# Altium footprint library Package_CSP.PcbLib: 178 footprints (part 1 of 12)
Each footprint in its own frame and in the unit in brackets; x right, y up, seen from the top. Pads: shape width x height; smd on the part's side, far side on the other; paste and mask are expansions set on the pad; w line width, h text height; cw(c..) or ccw(c..) is an arc to the next point about the centre after c.
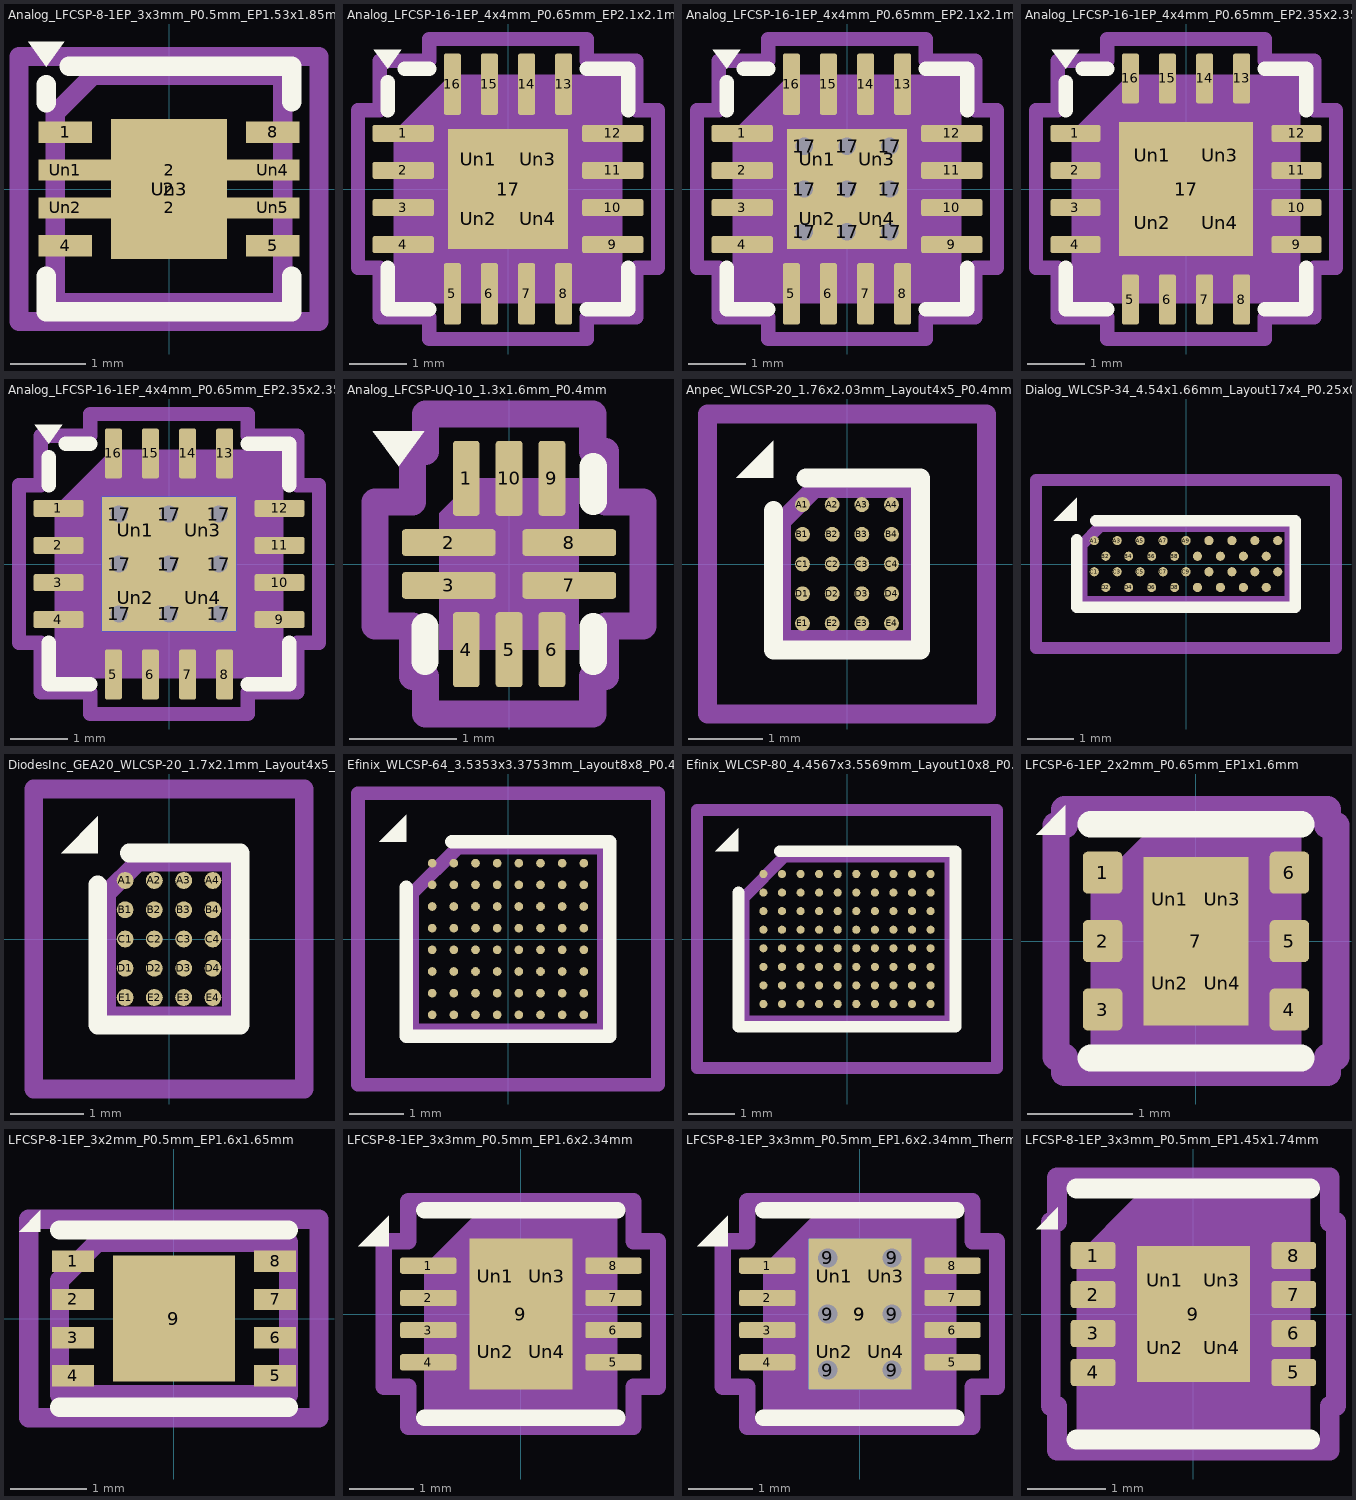
[diagram p0: the footprints below, top view; thin cyan lines are the x and y axes]

## Analog_LFCSP-8-1EP_3x3mm_P0.5mm_EP1.53x1.85mm [mm]
pads (12):
  rect 0.71x0.28 smd: 1(-1.37,0.75) 4(-1.37,-0.75) 5(1.37,-0.75) 8(1.37,0.75)
  rect 3.45x0.28 smd: 2(0,-0.25) 2(0,0.25)
  rect 1.53x1.85 smd: 2(0,0)
  rect 0.71x0.28 on Top Solder: Un1(-1.37,0.25) Un2(-1.37,-0.25) Un4(1.37,0.25) Un5(1.37,-0.25)
  rect 1.2x1.55 on Top Paste: Un3(0,0)
F.SilkS:
  region: -1.62,1.615 -1.86,1.945 -1.38,1.945
  lines w0.254: -1.62,-1.15 -1.62,-1.62 1.62,-1.62 1.62,-1.15 ; -1.62,1.14 -1.62,1.375 ; -1.32,1.62 1.62,1.62 1.62,1.15
Top Component Center:
  lines w0.127: -0.127,0 0.127,0 ; 0,-0.127 0,0.127
Top Assembly:
  lines w0.254: -1.5,-1.5 -1.5,1 -1,1.5 1.5,1.5 1.5,-1.5 -1.5,-1.5
  text "'.Designator'" at -2.878,-0.633 h0.7
Top Courtyard:
  lines w0.254: -1.98,-1.75 -1.98,1.75 1.98,1.75 1.98,-1.75 -1.98,-1.75
Top Designator:
  text ".Designator" at -7.768,-0.474 h1.52

## Analog_LFCSP-16-1EP_4x4mm_P0.65mm_EP2.1x2.1mm [mm]
pads (21):
  rrect25% 1.075x0.3 smd: 1(-1.837,0.975) 2(-1.837,0.325) 3(-1.837,-0.325) 4(-1.837,-0.975) 9(1.837,-0.975) 10(1.837,-0.325) 11(1.837,0.325) 12(1.837,0.975)
  rrect25% 0.3x1.075 smd: 5(-0.975,-1.837) 6(-0.325,-1.837) 7(0.325,-1.837) 8(0.975,-1.837) 13(0.975,1.837) 14(0.325,1.837) 15(-0.325,1.837) 16(-0.975,1.837)
  rect 2.1x2.1 smd: 17(0,0)
  rrect25% 0.85x0.85 on Top Paste: Un1(-0.525,0.525) Un2(-0.525,-0.525) Un3(0.525,0.525) Un4(0.525,-0.525)
F.SilkS:
  region: -2.11,2.11 -2.35,2.44 -1.87,2.44
  lines w0.254: -2.11,-1.385 -2.11,-2.11 -1.385,-2.11 ; -2.11,1.385 -2.11,1.87 ; -1.81,2.11 -1.385,2.11 ; 1.385,-2.11 2.11,-2.11 2.11,-1.385 ; 1.385,2.11 2.11,2.11 2.11,1.385
Top Assembly:
  region: 2,-2 -2,-2 -2,1 -1,2 2,2
  text "'.Designator'" at -4.047,-0.84 h1
Top Courtyard:
  lines w0.254: -2.63,-1.38 -2.25,-1.38 -2.25,-2.25 -1.38,-2.25 -1.38,-2.63 1.38,-2.63 1.38,-2.25 2.25,-2.25 2.25,-1.38 2.63,-1.38 2.63,1.38 2.25,1.38 2.25,2.25 1.38,2.25 1.38,2.63 -1.38,2.63 -1.38,2.25 -2.25,2.25 -2.25,1.38 -2.63,1.38 -2.63,-1.38
Top Designator:
  text ".Designator" at -7.768,-0.508 h1.52

## Analog_LFCSP-16-1EP_4x4mm_P0.65mm_EP2.1x2.1mm_ThermalVias [mm]
pads (31):
  rrect25% 1.075x0.3 smd: 1(-1.837,0.975) 2(-1.837,0.325) 3(-1.837,-0.325) 4(-1.837,-0.975) 9(1.837,-0.975) 10(1.837,-0.325) 11(1.837,0.325) 12(1.837,0.975)
  rrect25% 0.3x1.075 smd: 5(-0.975,-1.837) 6(-0.325,-1.837) 7(0.325,-1.837) 8(0.975,-1.837) 13(0.975,1.837) 14(0.325,1.837) 15(-0.325,1.837) 16(-0.975,1.837)
  round 0.6 hole 0.3: 17(-0.75,-0.75) 17(-0.75,0) 17(-0.75,0.75) 17(0,-0.75) 17(0,0) 17(0,0.75) 17(0.75,-0.75) 17(0.75,0) 17(0.75,0.75)
  rect 2.1x2.1 smd: 17(0,0)
  rect 2.1x2.1 smd far side: 17(0,0)
  rrect25% 0.91x0.91 on Top Paste: Un1(-0.525,0.525) Un2(-0.525,-0.525) Un3(0.525,0.525) Un4(0.525,-0.525)
F.SilkS:
  region: -2.11,2.11 -2.35,2.44 -1.87,2.44
  lines w0.254: -2.11,-1.385 -2.11,-2.11 -1.385,-2.11 ; -2.11,1.385 -2.11,1.87 ; -1.81,2.11 -1.385,2.11 ; 1.385,-2.11 2.11,-2.11 2.11,-1.385 ; 1.385,2.11 2.11,2.11 2.11,1.385
Top Assembly:
  region: 2,-2 -2,-2 -2,1 -1,2 2,2
  text "'.Designator'" at -4.047,-0.84 h1
Top Courtyard:
  lines w0.254: -2.63,-1.38 -2.25,-1.38 -2.25,-2.25 -1.38,-2.25 -1.38,-2.63 1.38,-2.63 1.38,-2.25 2.25,-2.25 2.25,-1.38 2.63,-1.38 2.63,1.38 2.25,1.38 2.25,2.25 1.38,2.25 1.38,2.63 -1.38,2.63 -1.38,2.25 -2.25,2.25 -2.25,1.38 -2.63,1.38 -2.63,-1.38
Top Designator:
  text ".Designator" at -7.768,-0.508 h1.52

## Analog_LFCSP-16-1EP_4x4mm_P0.65mm_EP2.35x2.35mm [mm]
pads (21):
  rrect25% 0.875x0.3 smd: 1(-1.937,0.975) 2(-1.937,0.325) 3(-1.937,-0.325) 4(-1.937,-0.975) 9(1.937,-0.975) 10(1.937,-0.325) 11(1.937,0.325) 12(1.937,0.975)
  rrect25% 0.3x0.875 smd: 5(-0.975,-1.937) 6(-0.325,-1.937) 7(0.325,-1.937) 8(0.975,-1.937) 13(0.975,1.937) 14(0.325,1.937) 15(-0.325,1.937) 16(-0.975,1.937)
  rect 2.35x2.35 smd: 17(0,0)
  rrect25% 0.95x0.95 on Top Paste: Un1(-0.59,0.59) Un2(-0.59,-0.59) Un3(0.59,0.59) Un4(0.59,-0.59)
F.SilkS:
  region: -2.11,2.11 -2.35,2.44 -1.87,2.44
  lines w0.254: -2.11,-1.385 -2.11,-2.11 -1.385,-2.11 ; -2.11,1.385 -2.11,1.87 ; -1.81,2.11 -1.385,2.11 ; 1.385,-2.11 2.11,-2.11 2.11,-1.385 ; 1.385,2.11 2.11,2.11 2.11,1.385
Top Assembly:
  region: 2,-2 -2,-2 -2,1 -1,2 2,2
  text "'.Designator'" at -4.047,-0.84 h1
Top Courtyard:
  lines w0.254: -2.63,-1.38 -2.25,-1.38 -2.25,-2.25 -1.38,-2.25 -1.38,-2.63 1.38,-2.63 1.38,-2.25 2.25,-2.25 2.25,-1.38 2.63,-1.38 2.63,1.38 2.25,1.38 2.25,2.25 1.38,2.25 1.38,2.63 -1.38,2.63 -1.38,2.25 -2.25,2.25 -2.25,1.38 -2.63,1.38 -2.63,-1.38
Top Designator:
  text ".Designator" at -7.768,-0.508 h1.52

## Analog_LFCSP-16-1EP_4x4mm_P0.65mm_EP2.35x2.35mm_ThermalVias [mm]
pads (31):
  rrect25% 0.875x0.3 smd: 1(-1.937,0.975) 2(-1.937,0.325) 3(-1.937,-0.325) 4(-1.937,-0.975) 9(1.937,-0.975) 10(1.937,-0.325) 11(1.937,0.325) 12(1.937,0.975)
  rrect25% 0.3x0.875 smd: 5(-0.975,-1.937) 6(-0.325,-1.937) 7(0.325,-1.937) 8(0.975,-1.937) 13(0.975,1.937) 14(0.325,1.937) 15(-0.325,1.937) 16(-0.975,1.937)
  round 0.6 hole 0.3: 17(-0.875,-0.875) 17(-0.875,0) 17(-0.875,0.875) 17(0,-0.875) 17(0,0) 17(0,0.875) 17(0.875,-0.875) 17(0.875,0) 17(0.875,0.875)
  rect 2.35x2.35 smd: 17(0,0)
  rect 2.35x2.35 smd far side: 17(0,0)
  rrect25% 1.02x1.02 on Top Paste: Un1(-0.59,0.59) Un2(-0.59,-0.59) Un3(0.59,0.59) Un4(0.59,-0.59)
F.SilkS:
  region: -2.11,2.11 -2.35,2.44 -1.87,2.44
  lines w0.254: -2.11,-1.385 -2.11,-2.11 -1.385,-2.11 ; -2.11,1.385 -2.11,1.87 ; -1.81,2.11 -1.385,2.11 ; 1.385,-2.11 2.11,-2.11 2.11,-1.385 ; 1.385,2.11 2.11,2.11 2.11,1.385
Top Assembly:
  region: 2,-2 -2,-2 -2,1 -1,2 2,2
  text "'.Designator'" at -4.047,-0.84 h1
Top Courtyard:
  lines w0.254: -2.63,-1.38 -2.25,-1.38 -2.25,-2.25 -1.38,-2.25 -1.38,-2.63 1.38,-2.63 1.38,-2.25 2.25,-2.25 2.25,-1.38 2.63,-1.38 2.63,1.38 2.25,1.38 2.25,2.25 1.38,2.25 1.38,2.63 -1.38,2.63 -1.38,2.25 -2.25,2.25 -2.25,1.38 -2.63,1.38 -2.63,-1.38
Top Designator:
  text ".Designator" at -7.768,-0.508 h1.52

## Analog_LFCSP-UQ-10_1.3x1.6mm_P0.4mm [mm]
pads (10):
  rrect25% 0.25x0.7 smd: 1(-0.4,0.8) 4(-0.4,-0.8) 5(0,-0.8) 6(0.4,-0.8) 9(0.4,0.8) 10(0,0.8)
  rrect25% 0.875x0.25 smd: 2(-0.563,0.2) 3(-0.563,-0.2) 7(0.563,-0.2) 8(0.563,0.2)
F.SilkS:
  region: -1.03,0.91 -1.27,1.24 -0.79,1.24
  lines w0.254: -0.785,-0.91 -0.785,-0.585 ; 0.785,-0.91 0.785,-0.585 ; 0.785,0.585 0.785,0.91
Top Assembly:
  region: 0.65,-0.8 -0.65,-0.8 -0.65,0.475 -0.325,0.8 0.65,0.8
  text "'.Designator'" at 0.336,-1.619 h0.4
Top Courtyard:
  lines w0.254: -1.25,-0.58 -0.9,-0.58 -0.9,-1.05 -0.78,-1.05 -0.78,-1.4 0.78,-1.4 0.78,-1.05 0.9,-1.05 0.9,-0.58 1.25,-0.58 1.25,0.58 0.9,0.58 0.9,1.05 0.78,1.05 0.78,1.4 -0.78,1.4 -0.78,1.05 -0.9,1.05 -0.9,0.58 -1.25,0.58 -1.25,-0.58
Top Designator:
  text ".Designator" at -7.618,-0.568 h1.52

## Anpec_WLCSP-20_1.76x2.03mm_Layout4x5_P0.4mm [mm]
pads (20):
  round 0.2 smd: A1(-0.6,0.8) A2(-0.2,0.8) A3(0.2,0.8) A4(0.6,0.8) B1(-0.6,0.4) B2(-0.2,0.4) B3(0.2,0.4) B4(0.6,0.4) C1(-0.6,0) C2(-0.2,0) C3(0.2,0) C4(0.6,0) D1(-0.6,-0.4) D2(-0.2,-0.4) D3(0.2,-0.4) D4(0.6,-0.4) E1(-0.6,-0.8) E2(-0.2,-0.8) E3(0.2,-0.8) E4(0.6,-0.8)
F.SilkS:
  region: -0.99,1.16 -1.49,1.16 -0.99,1.66
  lines w0.254: -0.99,0.72 -0.99,-1.16 0.99,-1.16 0.99,1.16 -0.55,1.16
Top Assembly:
  lines w0.254: -0.88,-1.015 0.88,-1.015 0.88,1.015 -0.44,1.015 -0.88,0.575 -0.88,-1.015
  text "'.Designator'" at -0.395,1.902 h0.47
Top Courtyard:
  lines w0.254: -1.88,-2.02 1.88,-2.02 1.88,2.02 -1.88,2.02 -1.88,-2.02
Top Designator:
  text ".Designator" at -7.618,-0.508 h1.52

## Dialog_WLCSP-34_4.54x1.66mm_Layout17x4_P0.25x0.34mm [mm]
pads (34):
  round 0.2 smd: A1(-2,0.51) A3(-1.5,0.51) A5(-1,0.51) A7(-0.5,0.51) A9(0,0.51) A11(0.5,0.51) A13(1,0.51) A15(1.5,0.51) A17(2,0.51) B2(-1.75,0.17) B4(-1.25,0.17) B6(-0.75,0.17) B8(-0.25,0.17) B10(0.25,0.17) B12(0.75,0.17) B14(1.25,0.17) B16(1.75,0.17) C1(-2,-0.17) C3(-1.5,-0.17) C5(-1,-0.17) C7(-0.5,-0.17) C9(0,-0.17) C11(0.5,-0.17) C13(1,-0.17) C15(1.5,-0.17) C17(2,-0.17) D2(-1.75,-0.51) D4(-1.25,-0.51) D6(-0.75,-0.51) D8(-0.25,-0.51) D10(0.25,-0.51) D12(0.75,-0.51) D14(1.25,-0.51) D16(1.75,-0.51)
F.SilkS:
  region: -2.38,0.94 -2.88,0.94 -2.38,1.44
  lines w0.254: -2.38,0.525 -2.38,-0.94 2.38,-0.94 2.38,0.94 -1.965,0.94
Top Assembly:
  lines w0.254: -2.27,-0.83 2.27,-0.83 2.27,0.83 -1.855,0.83 -2.27,0.415 -2.27,-0.83
  text "'.Designator'" at -4.047,-0.84 h1
Top Courtyard:
  lines w0.254: -3.27,-1.83 3.27,-1.83 3.27,1.83 -3.27,1.83 -3.27,-1.83
Top Designator:
  text ".Designator" at -7.768,-0.508 h1.52

## DiodesInc_GEA20_WLCSP-20_1.7x2.1mm_Layout4x5_P0.4mm [mm]
pads (20):
  round 0.23 smd: A1(-0.6,0.8) A2(-0.2,0.8) A3(0.2,0.8) A4(0.6,0.8) B1(-0.6,0.4) B2(-0.2,0.4) B3(0.2,0.4) B4(0.6,0.4) C1(-0.6,0) C2(-0.2,0) C3(0.2,0) C4(0.6,0) D1(-0.6,-0.4) D2(-0.2,-0.4) D3(0.2,-0.4) D4(0.6,-0.4) E1(-0.6,-0.8) E2(-0.2,-0.8) E3(0.2,-0.8) E4(0.6,-0.8)
F.SilkS:
  region: -0.975,1.175 -1.475,1.175 -0.975,1.675
  lines w0.254: -0.975,0.743 -0.975,-1.175 0.975,-1.175 0.975,1.175 -0.543,1.175
Top Assembly:
  lines w0.254: -0.85,-1.05 0.85,-1.05 0.85,1.05 -0.425,1.05 -0.85,0.625 -0.85,-1.05
  text "'.Designator'" at -0.412,1.983 h0.49
Top Courtyard:
  lines w0.254: -1.85,-2.05 1.85,-2.05 1.85,2.05 -1.85,2.05 -1.85,-2.05
Top Designator:
  text ".Designator" at -7.618,-0.508 h1.52

## Efinix_WLCSP-64_3.5353x3.3753mm_Layout8x8_P0.4mm [mm]
pads (64):
  round 0.16 smd: A1(-1.4,1.4) A2(-1,1.4) A3(-0.6,1.4) A4(-0.2,1.4) A5(0.2,1.4) A6(0.6,1.4) A7(1,1.4) A8(1.4,1.4) B1(-1.4,1) B2(-1,1) B3(-0.6,1) B4(-0.2,1) B5(0.2,1) B6(0.6,1) B7(1,1) B8(1.4,1) C1(-1.4,0.6) C2(-1,0.6) C3(-0.6,0.6) C4(-0.2,0.6) C5(0.2,0.6) C6(0.6,0.6) C7(1,0.6) C8(1.4,0.6) D1(-1.4,0.2) D2(-1,0.2) D3(-0.6,0.2) D4(-0.2,0.2) D5(0.2,0.2) D6(0.6,0.2) D7(1,0.2) D8(1.4,0.2) E1(-1.4,-0.2) E2(-1,-0.2) E3(-0.6,-0.2) E4(-0.2,-0.2) E5(0.2,-0.2) E6(0.6,-0.2) E7(1,-0.2) E8(1.4,-0.2) F1(-1.4,-0.6) F2(-1,-0.6) F3(-0.6,-0.6) F4(-0.2,-0.6) F5(0.2,-0.6) F6(0.6,-0.6) F7(1,-0.6) F8(1.4,-0.6) G1(-1.4,-1) G2(-1,-1) G3(-0.6,-1) G4(-0.2,-1) G5(0.2,-1) G6(0.6,-1) G7(1,-1) G8(1.4,-1) H1(-1.4,-1.4) H2(-1,-1.4) H3(-0.6,-1.4) H4(-0.2,-1.4) H5(0.2,-1.4) H6(0.6,-1.4) H7(1,-1.4) H8(1.4,-1.4)
F.SilkS:
  region: -1.878,1.798 -2.378,1.798 -1.878,2.298
  lines w0.254: -1.878,0.954 -1.878,-1.798 1.878,-1.798 1.878,1.798 -1.034,1.798
Top Assembly:
  lines w0.254: -1.768,-1.688 1.768,-1.688 1.768,1.688 -0.924,1.688 -1.768,0.844 -1.768,-1.688
  text "'.Designator'" at -3.318,-0.689 h0.82
Top Courtyard:
  lines w0.254: -2.77,-2.69 2.77,-2.69 2.77,2.69 -2.77,2.69 -2.77,-2.69
Top Designator:
  text ".Designator" at -7.741,-0.508 h1.52

## Efinix_WLCSP-80_4.4567x3.5569mm_Layout10x8_P0.4mm [mm]
pads (80):
  round 0.175 smd: A1(-1.8,1.4) A2(-1.4,1.4) A3(-1,1.4) A4(-0.6,1.4) A5(-0.2,1.4) A6(0.2,1.4) A7(0.6,1.4) A8(1,1.4) A9(1.4,1.4) A10(1.8,1.4) B1(-1.8,1) B2(-1.4,1) B3(-1,1) B4(-0.6,1) B5(-0.2,1) B6(0.2,1) B7(0.6,1) B8(1,1) B9(1.4,1) B10(1.8,1) C1(-1.8,0.6) C2(-1.4,0.6) C3(-1,0.6) C4(-0.6,0.6) C5(-0.2,0.6) C6(0.2,0.6) C7(0.6,0.6) C8(1,0.6) C9(1.4,0.6) C10(1.8,0.6) D1(-1.8,0.2) D2(-1.4,0.2) D3(-1,0.2) D4(-0.6,0.2) D5(-0.2,0.2) D6(0.2,0.2) D7(0.6,0.2) D8(1,0.2) D9(1.4,0.2) D10(1.8,0.2) E1(-1.8,-0.2) E2(-1.4,-0.2) E3(-1,-0.2) E4(-0.6,-0.2) E5(-0.2,-0.2) E6(0.2,-0.2) E7(0.6,-0.2) E8(1,-0.2) E9(1.4,-0.2) E10(1.8,-0.2) F1(-1.8,-0.6) F2(-1.4,-0.6) F3(-1,-0.6) F4(-0.6,-0.6) F5(-0.2,-0.6) F6(0.2,-0.6) F7(0.6,-0.6) F8(1,-0.6) F9(1.4,-0.6) F10(1.8,-0.6) G1(-1.8,-1) G2(-1.4,-1) G3(-1,-1) G4(-0.6,-1) G5(-0.2,-1) G6(0.2,-1) G7(0.6,-1) G8(1,-1) G9(1.4,-1) G10(1.8,-1) H1(-1.8,-1.4) H2(-1.4,-1.4) H3(-1,-1.4) H4(-0.6,-1.4) H5(-0.2,-1.4) H6(0.2,-1.4) H7(0.6,-1.4) H8(1,-1.4) H9(1.4,-1.4) H10(1.8,-1.4)
F.SilkS:
  region: -2.338,1.888 -2.838,1.888 -2.338,2.388
  lines w0.254: -2.338,0.999 -2.338,-1.888 2.338,-1.888 2.338,1.888 -1.449,1.888
Top Assembly:
  lines w0.254: -2.228,-1.778 2.228,-1.778 2.228,1.778 -1.339,1.778 -2.228,0.889 -2.228,-1.778
  text "'.Designator'" at -4.047,-0.84 h1
Top Courtyard:
  lines w0.254: -3.23,-2.78 3.23,-2.78 3.23,2.78 -3.23,2.78 -3.23,-2.78
Top Designator:
  text ".Designator" at -7.768,-0.508 h1.52

## LFCSP-6-1EP_2x2mm_P0.65mm_EP1x1.6mm [mm]
pads (11):
  rrect25% 0.375x0.4 smd: 1(-0.887,0.65) 2(-0.887,0) 3(-0.887,-0.65) 4(0.887,-0.65) 5(0.887,0) 6(0.887,0.65)
  rect 1x1.6 smd: 7(0,0)
  rrect25% 0.4x0.64 on Top Paste: Un1(-0.25,0.4) Un2(-0.25,-0.4) Un3(0.25,0.4) Un4(0.25,-0.4)
F.SilkS:
  region: -1.24,1.01 -1.52,1.01 -1.24,1.29
  lines w0.254: -1,-1.11 1,-1.11 ; -1,1.11 1,1.11
Top Assembly:
  region: 1,-1 -1,-1 -1,0.5 -0.5,1 1,1
  text "'.Designator'" at -2.028,-0.425 h0.5
Top Courtyard:
  lines w0.254: -1.33,-1.1 -1.25,-1.1 -1.25,-1.25 1.25,-1.25 1.25,-1.1 1.33,-1.1 1.33,1.1 1.25,1.1 1.25,1.25 -1.25,1.25 -1.25,1.1 -1.33,1.1 -1.33,-1.1
Top Designator:
  text ".Designator" at -7.698,-0.508 h1.52

## LFCSP-8-1EP_3x2mm_P0.5mm_EP1.6x1.65mm [mm]
pads (9):
  rect 0.55x0.28 smd: 1(-1.325,0.75) 2(-1.325,0.25) 3(-1.325,-0.25) 4(-1.325,-0.75) 5(1.325,-0.75) 6(1.325,-0.25) 7(1.325,0.25) 8(1.325,0.75)
  rect 1.6x1.65 smd: 9(0,0)
F.SilkS:
  region: -1.75,1.14 -2.03,1.14 -1.75,1.42
  lines w0.254: -1.5,-1.16 1.5,-1.16 ; -1.5,1.16 1.5,1.16
Top Assembly:
  lines w0.254: -1.5,-1 1.5,-1 1.5,1 -1,1 -1.5,0.5 -1.5,-1
  text "'.Designator'" at -2.63,-0.546 h0.65
Top Courtyard:
  lines w0.254: -1.9,-1.3 1.9,-1.3 1.9,1.3 -1.9,1.3 -1.9,-1.3
Top Designator:
  text ".Designator" at -7.715,-0.508 h1.52

## LFCSP-8-1EP_3x3mm_P0.5mm_EP1.6x2.34mm [mm]
pads (13):
  rrect25% 0.875x0.25 smd: 1(-1.438,0.75) 2(-1.438,0.25) 3(-1.438,-0.25) 4(-1.438,-0.75) 5(1.438,-0.75) 6(1.438,-0.25) 7(1.438,0.25) 8(1.438,0.75)
  rect 1.6x2.34 smd: 9(0,0)
  rrect25% 0.64x0.94 on Top Paste: Un1(-0.4,0.585) Un2(-0.4,-0.585) Un3(0.4,0.585) Un4(0.4,-0.585)
F.SilkS:
  region: -2.05,1.05 -2.53,1.05 -2.05,1.53
  lines w0.254: -1.5,-1.61 1.5,-1.61 ; -1.5,1.61 1.5,1.61
Top Assembly:
  region: 1.5,-1.5 -1.5,-1.5 -1.5,0.75 -0.75,1.5 1.5,1.5
  text "'.Designator'" at -3.033,-0.628 h0.75
Top Courtyard:
  lines w0.254: -2.13,-1.13 -1.75,-1.13 -1.75,-1.75 1.75,-1.75 1.75,-1.13 2.13,-1.13 2.13,1.13 1.75,1.13 1.75,1.75 -1.75,1.75 -1.75,1.13 -2.13,1.13 -2.13,-1.13
Top Designator:
  text ".Designator" at -7.728,-0.508 h1.52

## LFCSP-8-1EP_3x3mm_P0.5mm_EP1.6x2.34mm_ThermalVias [mm]
pads (20):
  rrect25% 0.875x0.25 smd: 1(-1.438,0.75) 2(-1.438,0.25) 3(-1.438,-0.25) 4(-1.438,-0.75) 5(1.438,-0.75) 6(1.438,-0.25) 7(1.438,0.25) 8(1.438,0.75)
  round 0.6 hole 0.3: 9(-0.5,-0.87) 9(-0.5,0) 9(-0.5,0.87) 9(0.5,-0.87) 9(0.5,0) 9(0.5,0.87)
  rect 1.6x2.34 smd: 9(0,0)
  rect 1.6x2.34 smd far side: 9(0,0)
  rrect25% 0.69x1.01 on Top Paste: Un1(-0.4,0.585) Un2(-0.4,-0.585) Un3(0.4,0.585) Un4(0.4,-0.585)
F.SilkS:
  region: -2.05,1.05 -2.53,1.05 -2.05,1.53
  lines w0.254: -1.5,-1.61 1.5,-1.61 ; -1.5,1.61 1.5,1.61
Top Assembly:
  region: 1.5,-1.5 -1.5,-1.5 -1.5,0.75 -0.75,1.5 1.5,1.5
  text "'.Designator'" at -3.033,-0.628 h0.75
Top Courtyard:
  lines w0.254: -2.13,-1.13 -1.75,-1.13 -1.75,-1.75 1.75,-1.75 1.75,-1.13 2.13,-1.13 2.13,1.13 1.75,1.13 1.75,1.75 -1.75,1.75 -1.75,1.13 -2.13,1.13 -2.13,-1.13
Top Designator:
  text ".Designator" at -7.728,-0.508 h1.52

## LFCSP-8-1EP_3x3mm_P0.5mm_EP1.45x1.74mm [mm]
pads (13):
  rrect25% 0.575x0.35 smd: 1(-1.288,0.75) 2(-1.288,0.25) 3(-1.288,-0.25) 4(-1.288,-0.75) 5(1.288,-0.75) 6(1.288,-0.25) 7(1.288,0.25) 8(1.288,0.75)
  rect 1.45x1.74 smd: 9(0,0)
  rrect25% 0.58x0.7 on Top Paste: Un1(-0.365,0.435) Un2(-0.365,-0.435) Un3(0.365,0.435) Un4(0.365,-0.435)
F.SilkS:
  region: -1.74,1.09 -2.02,1.09 -1.74,1.37
  lines w0.254: -1.5,-1.61 1.5,-1.61 ; -1.5,1.61 1.5,1.61
Top Assembly:
  region: 1.5,-1.5 -1.5,-1.5 -1.5,0.75 -0.75,1.5 1.5,1.5
  text "'.Designator'" at -3.033,-0.628 h0.75
Top Courtyard:
  lines w0.254: -1.83,-1.18 -1.75,-1.18 -1.75,-1.75 1.75,-1.75 1.75,-1.18 1.83,-1.18 1.83,1.18 1.75,1.18 1.75,1.75 -1.75,1.75 -1.75,1.18 -1.83,1.18 -1.83,-1.18
Top Designator:
  text ".Designator" at -7.728,-0.508 h1.52